# Altium schematic symbol library PTN5150A_X2QFN12.SchLib: 1 symbol
Pins are listed as number, name and electrical type; pins without a type are passive.

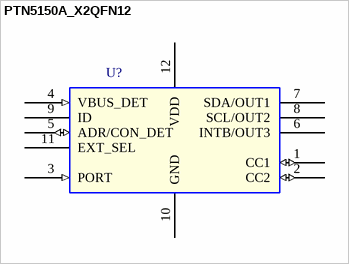
[diagram p0: symbol PTN5150A_X2QFN12]

## PTN5150A_X2QFN12
designator U?
IC CC LOGIC USB TYPE-C 2.7-5.5V X2QFN12
pins: 1 CC1 (io), 2 CC2 (io), 3 PORT (in), 4 VBUS_DET (in), 5 ADR/CON_DET (io), 6 INTB/OUT3 (oc), 7 SDA/OUT1 (oc), 8 SCL/OUT2 (oc), 9 ID (oc), 10 GND (power), 11 EXT_SEL (oc), 12 VDD (power)